# EAGLE library part ON-MUN5335DW1T1G (library ClintonLib)
ON Semiconductor (and jellybean) Pre-Biased NPN and PNP combo transistor, SOT-363 package Digikey <https://www.digikey.com/product-detail/en/on-semiconductor/MUN5335DW1T1G/MUN5335DW1T1GOSTR-ND/1482778> Datasheet <http://www.onsemi.com/pub/Collateral/DTC123JP-D.PDF>
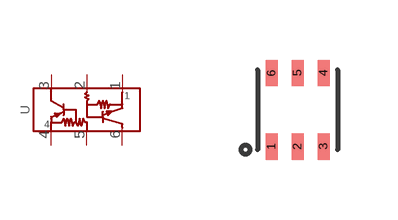
[diagram p25: symbol with the pads of SOT-363; footprint SOT-363]

Designator prefix -

## ON-MUN5335DW1T1G  [SOT-363]
1  1
2  2
3  3
4  4
5  5
6  6

## Footprint SOT-363 (pad centres in mm)
smd 0.3 x 0.66: 1 -0.65,-0.92; 2 0,-0.92; 3 0.65,-0.92; 4 0.65,0.92; 5 0,0.92; 6 -0.65,0.92